# Altium integrated library PCB_Project.IntLib: 28 symbols
Pins are listed as number, name and electrical type; pins without a type are passive.

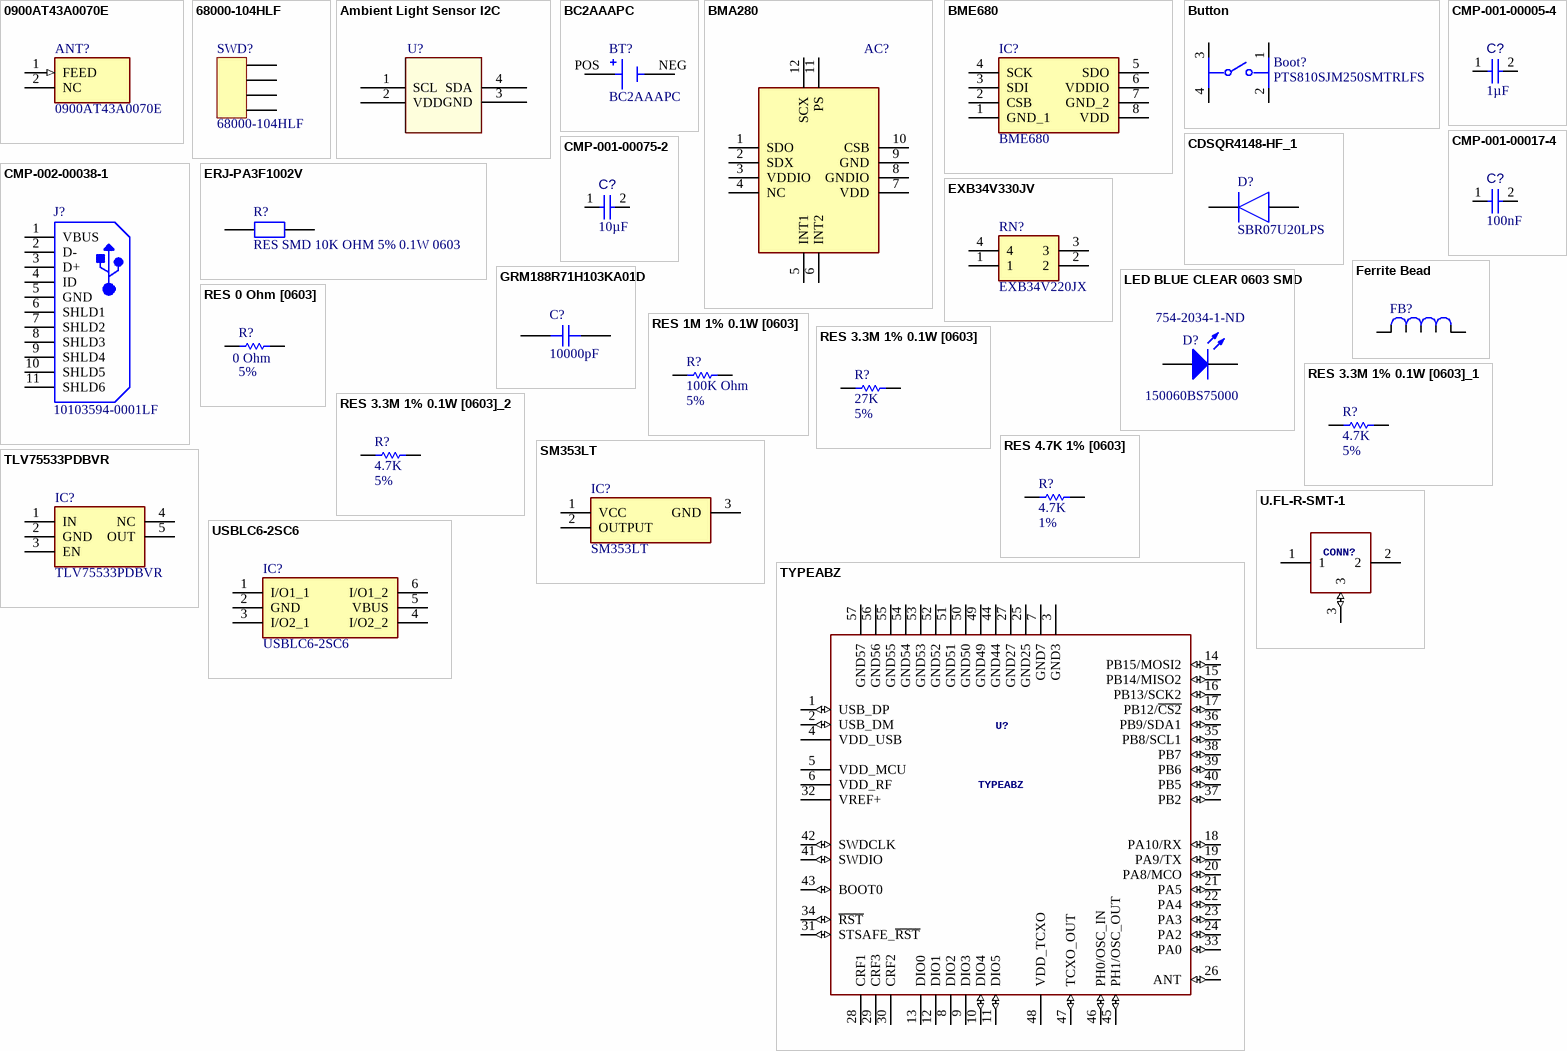
[diagram p0: symbols 0900AT43A0070E to USBLC6-2SC6]

## 0900AT43A0070E
designator ANT?
Antenna; Manufacturer_Name: JOHANSON TECHNOLOGY; Datasheet Link: https://www.johansontechnology.com/datasheets/0900AT43A0070/0900AT43A0070.pdf; Height: 0.9mm; Manufacturer_Part_Number: 0900AT43A0070E
footprint ANTC7020X90N
pins: 1 FEED (in), 2 NC

## 68000-104HLF
designator SWD?
4 Positions Header, Unshrouded Connector 0.100" (2.54mm) Through Hole Gold or Gold, GXT™; Manufacturer 1: Amphenol FCI; Number of Positions: 4; Gender: Male; Connector Type: Male Pin; Voltage Rating: 1.5kV; Current Rating: 3A; Insulation Resistance: 5GR; Mating Post Length: 5.84mm; Mount: Through Hole; Colour: Black; Housing Colour: Black; Housing Material: Thermoplastic; Contact Plating: Nickel,Gold,GXT; Contact Material: Bronze; Min Operating Temperature: -65°C; Max Operating Temperature: 125°C; Number of Rows: 1; Packaging: Bulk; Package Quantity: 100; Termination: Solder; Number of Contacts: 4; Orientation: Straight; Max Voltage Rating (AC): 1.5kV; Contact Gender: Male; Length: 10.16mm; Pitch: 2.54mm; Depth: 2.41mm; Termination Post Length: 2.41mm; Contact Mating Length: 0.23inch; Radiation Hardening: No; REACH SVHC: No SVHC; Flammability Rating: UL94 V-0; ComponentLink1URL: https://datasheet.ciiva.com/16726/68000-16726213.pdf; ComponentLink1Description: https://datasheet.ciiva.com/16726/68000-16726213.pdf; ComponentLink2URL: https://datasheet.ciiva.com/10149/68000-10149830.pdf; ComponentLink2Description: https://datasheet.ciiva.com/10149/68000-10149830.pdf; ComponentLink3URL: https://datasheet.ciiva.com/46395/1914865-46395854.pdf; ComponentLink3Description: https://datasheet.ciiva.com/46395/1914865-46395854.pdf; ComponentLink4URL: https://datasheet.ciiva.com/728/68000-728879.pdf; ComponentLink4Description: https://datasheet.ciiva.com/728/68000-728879.pdf; Description 1: 4 Positions Header, Unshrouded Connector 0.100" (2.54mm) Through Hole Gold or Gold, GXT™; Manufacturer Part Number 1: 68000-104HLF; Pricing 1: 1=0.33, 10=0.316, 100=0.2212, 500=0.18964, 1000=0.15803, 5000=0.13545, 10000=0.12642 (USD); Stock 1: 10785; Supplier 1: Digi-Key; Supplier Part Number 1: 609-3248-ND
footprint 4POS_HEADER (4 Positions Header, Cuttable Connector 0.100")
pins: 1, 2, 3, 4 3

## Ambient Light Sensor I2C
designator U?, comment VEML7700-TR  (value not drawn)
VEML7700-TR, Ambient Light Sensor with I2C; Supplier 1: Digi-Key; Supplier Part Number 1: VEML7700CT-ND; Datasheet: https://media.digikey.com/pdf/Data%20Sheets/Vishay%20Semiconductors/VEML7700.pdf; PN: VEML7700-TR; ComponentLink1Description: VEML7700-TR; ComponentLink1URL: VEML7700-TR
footprint Ambient Light Sensor with I2C
footprint Ambient Light Sensor with I2C
pins: 1 SCL, 2 VDD (power), 3 GND (power), 4 SDA

## BC2AAAPC
designator BT?
BATTERY HOLDER AAA 2 CELL PC PIN; MF: MPD; MP: BC2AAAPC; Package: None; SnapEDA_Link: https://www.snapeda.com/parts/BC2AAAPC/MPD/view-part/4389080/?ref=snap; Availability: Unavailable; Price: None; Value: *
footprint BAT_BC2AAAPC
pins: NEG, POS

## BMA280
designator AC?, comment BMA490L  (value not drawn)
BMA490L Accelerometer; Manufacturer_Name: Bosch Sensortec; Manufacturer_Part_Number: BMA280; Datasheet Link: https://ae-bst.resource.bosch.com/media/_tech/media/datasheets/BST-BMA280-DS000.pdf; Height: 1mm; Arrow Part Number: BMA280; Arrow Price/Stock: https://www.arrow.com/en/products/bma280/bosch; Mouser Part Number: 262-BMA280; Mouser Price/Stock: https://www.mouser.co.uk/ProductDetail/Bosch-Sensortec/BMA280?qs=d72FGnIDsgRcX8VH3KFYOw%3D%3D; ComponentLink1Description: docu; ComponentLink1URL: https://www.bosch-sensortec.com/media/boschsensortec/downloads/datasheets/bst-bma280-ds000.pdf
footprint BMA280
pins: 1 SDO, 2 SDX, 3 VDDIO, 4 NC, 5 INT1, 6 INT2, 7 VDD, 8 GNDIO, 9 GND, 10 CSB, 11 PS, 12 SCX

## BME680
designator IC?
Integrated Circuit; Manufacturer_Name: Bosch Sensortec; Datasheet Link: https://ae-bst.resource.bosch.com/media/_tech/media/datasheets/BST-BME680-DS001-00.pdf; Manufacturer_Part_Number: BME680; Mouser Part Number: 262-BME680; Mouser Price/Stock: https://www.mouser.co.uk/ProductDetail/Bosch-Sensortec/BME680?qs=v271MhAjFHjo0yA%2FC4OnDQ%3D%3D; Arrow Part Number: BME680; Arrow Price/Stock: https://www.arrow.com/en/products/bme680/bosch
footprint BME680
pins: 1 GND_1, 2 CSB, 3 SDI, 4 SCK, 5 SDO, 6 VDDIO, 7 GND_2, 8 VDD

## Button
designator Boot?, comment PTS810SJM250SMTRLFS
SWITCH TACTILE SPST-NO 0.05A 16V; Manufacturer: C&K Components; Throw Configuration: SPST; Contact Resistance: 500mΩ; Electromechanical Life: 150000Cycles; Operating Force: 160gf; Contact Current Rating: 50mA; Temperature: -40°C to +85°C; Device Class L2: Switches; Digikey Description: SWITCH TACTILE SPST-NO 0.05A 16V; Automotive: No; Height: 2.7mm; ComponentLink2Description: Datasheet; Temperature Range Low: -40°C; Device Class L1: Electromechanical; Mouser Description: Switch Tactile N.O. SPST Button J-Bend 0.05A 16VDC 150000Cycles 1.57N SMD T/R; Octopart: https://octopart.com/pts810+sjm+250+smtr+lfs-c%26k+components-29687929; Lead Free: Yes; Voltage Rating Dc: 16V; Temperature Range High: +85°C; Package: PTS810SJM250SMTRLFS; Manufacturer Part Number: PTS810SJM250SMTRLFS; ComponentLink2URL: https://www.ckswitches.com/media/1476/pts810.pdf; Category: Switch; RoHS: TRUE; Device Class L3: Tactile Switches
footprint FP-PTS810SJM250SMTRLFS-MFG
footprint FP-PTS810SJM250SMTRLFS-MFG
pins: 1, 2, 3, 4

## CDSQR4148-HF_1
designator D?, comment SBR07U20LPS
Diode; Manufacturer_Name: Comchip Technology; Manufacturer_Part_Number: CDSQR4148-HF; Datasheet Link: http://www.comchiptech.com/admin/files/product/CDSQR4148-HF-RevC213424.pdf; Height: 0mm; Arrow Part Number: CDSQR4148-HF; Arrow Price/Stock: https://www.arrow.com/en/products/cdsqr4148-hf/comchip-technology; Mouser Part Number: 750-CDSQR4148-HF; Mouser Price/Stock: https://www.mouser.co.uk/ProductDetail/Comchip-Technology/CDSQR4148-HF?qs=2qJf6qQ4IOKNV97fk6Xvow%3D%3D; ComponentLink1Description: SBR07U20LPS; ComponentLink1URL: https://www.diodes.com/assets/Datasheets/SBR07U20LPS.pdf
footprint CDBQR70HF
pins: 1 K, 2 A

## CMP-001-00005-4
designator C?, comment value 1µF  (hidden comment: Capacitor 1 uF +/- 10% 25 V 0603)
Chip Capacitor, 1 uF, +/- 10%, 25 V, 0603 (1608 Metric); Voltage Rating: 25V; Capacitor Type: Ceramic; Min Operating Temperature: -55°C; Tolerance: 10%; Max Operating Temperature: 125°C; Case/Package: 0603; RoHS Compliant: True; Mounting Technology: SM; Pins: 2
footprint CAPC1608X90X40ML10T20 (Chip Capacitor, 2-Leads, Body 1.70x0.90mm, IPC Low Density)
footprint CAPC1608X90X40NL10T20 (Chip Capacitor, 2-Leads, Body 1.70x0.90mm, IPC Medium Density)
footprint CAPC1608X90X40LL10T20 (Chip Capacitor, 2-Leads, Body 1.70x0.90mm, IPC High Density)
pins: 1, 2

## CMP-001-00017-4
designator C?, comment value 100nF  (hidden comment: Capacitor 100 nF +/-10% 50 V 0603)
Chip Capacitor, 100 nF, +/- 10%, 50 V, 0603 (1608 Metric); Capacitor Type: Ceramic; Voltage Rating: 50V; RoHS Compliant: True; Max Operating Temperature: 125°C; Pins: 2; Mounting Technology: SM; Min Operating Temperature: -55°C; Tolerance: 10%; Case/Package: 0603
footprint CAPC1608X90X40ML10T20 (Chip Capacitor, 2-Leads, Body 1.70x0.90mm, IPC Low Density)
footprint CAPC1608X90X40NL10T20 (Chip Capacitor, 2-Leads, Body 1.70x0.90mm, IPC Medium Density)
footprint CAPC1608X90X40LL10T20 (Chip Capacitor, 2-Leads, Body 1.70x0.90mm, IPC High Density)
pins: 1, 2

## CMP-001-00075-2
designator C?, comment value 10µF  (hidden comment: Capacitor 10µF +/-20% 10V 0603)
Chip Capacitor, 10µF +/-20%, 10V, 0603, Thickness 1 mm; Tolerance: 10%; Mounting Technology: SMT; Pins: 2; Min Operating Temperature: -55°C; Case/Package: 0402; Max Operating Temperature: 85°C; Voltage Rating: 10V
footprint CAPC0603(1608)100_L (Chip Capacitor, Body 1.6x0.8mm, Height 1.0mm, IPC High Density)
pins: 1, 2

## CMP-002-00038-1
designator J?, comment 10103594-0001LF
Micro USB 2.0 B Receptacle, 5 Position, Height 3.24 mm, -55 to 85 degC, RoHS, Tape and Reel; Manufacturer: FCI Electronics; Voltage Rating: 100V; Gender: Female; Current Rating: 1.8A; Min Operating Temperature: -55°C; Pins: 5; Contact Plating: Gold; Package Description: 5-Pin Surface Mount Device, Body 8.04 x 5.62 mm; RoHS Compliant: True; Lead Pitch: 0.65mm; Packaging: TapeandReel; Case/Package: FCI-10103594-0001LF; Manufacturer URL: http://portal.fciconnect.com/; Mounting Technology: SM; Datasheet Version: Rev. A, 06/2010; Connector Type: USB; Contact Material: Copper; Datasheet URL: http://portal.fciconnect.com/Comergent//fci/drawing/10103594.pdf; Max Operating Temperature: 85°C; Package Quantity: 1500; Package Reference: FCI-10103594-0001LF
footprint FCI-10103594-0001LF_V (SMD, 5-Leads, Body 8.04x5.62mm, Pitch 0.65 mm)
pins: 1 VBUS, 2 D-, 3 D+, 4 ID, 5 GND, 6 SHLD1, 7 SHLD2, 8 SHLD3, 9 SHLD4, 10 SHLD5, 11 SHLD6

## ERJ-PA3F1002V
designator R?, comment RES SMD 10K OHM 5% 0.1W 0603
Manufacturer: Panasonic Electronic Components; Manufacturer Part Number: ERJ-PA3F1002V; Power (Watts): 0.25W, 1/4W; Temperature Coefficient: ±100ppm/°C; Supplier 1: Digi-Key; RoHS: RoHS Compliant; Category: Resistors; Stock 1: 80783; Pricing 1: 1=0.23, 10=0.205, 25=0.142, 50=0.1102, 100=0.0789, 250=0.06144, 500=0.04884, 1000=0.03467 (CAD); Packaging: Digi-Reel®; Part Status: Active; Resistance (Ohms): 10k; Tolerance: ±5%; Composition: Thick Film; Features: Automotive AEC-Q200, Pulse Withstanding; Operating Temperature: -55°C ~ 155°C; Package / Case: 0603 (1608 Metric); Supplier Device Package: 0603; Size / Dimension: 0.063" L x 0.031" W (1.60mm x 0.80mm); Height - Seated (Max): 0.022" (0.55mm); Failure Rate: -; ComponentLink1URL: https://industrial.panasonic.com/cdbs/www-data/pdf/RDO0000/AOA0000C291.pdf; ComponentLink1Description: https://industrial.panasonic.com/cdbs/www-data/pdf/RDO0000/AOA0000C291.pdf; Supplier Part Number 1: P10KBYDKR-ND
footprint RESC0603 (Chip Resistor 0603, 2-Leads, Body 1.60x0.82mm, IPC High Density)
pins: 1, 2

## EXB34V330JV
designator RN?, comment EXB34V220JX
Resistor Network; Manufacturer_Name: Panasonic; Manufacturer_Part_Number: EXB34V330JV; Datasheet Link: https://industrial.panasonic.com/cdbs/www-data/pdf/AOC0000/AOC0000C14.pdf; Height: 0.5mm; ComponentLink1Description: EXB24/34V; ComponentLink1URL: https://www.mouser.ca/datasheet/2/315/AOC0000C14-1108062.pdf
footprint EXB34V103JV
pins: 1, 2, 3, 4

## Ferrite Bead
designator FB?, comment BLM18AG102SN1D  (value not drawn)
Ferrite Bead 1KOhm @100MHz; Datasheet: https://www.murata.com/en-us/products/productdata/8796738650142/ENFA0003.pdf?src-supplier=Digi-Key; Supplier 1: Mouser; Supplier Part Number 1: 81-BLM11A102S; PN: BLM18AG102SN1D
footprint Ferrite Bead
pins: 1, 2

## GRM188R71H103KA01D
designator C?, comment 10000PF
CAP CER 10000PF 50V X7R 0603; Manufacturer: Murata Electronics North America; Manufacturer Part Number: GRM188R71H103KA01D; Tolerance: ±10%; Supplier 1: Digi-Key; RoHS: RoHS Compliant; Category: Capacitors; Stock 1: 5417714; Pricing 1: 1=0.14, 10=0.031, 100=0.0135, 500=0.00966, 1000=0.00758 (CAD); Packaging: Cut Tape (CT); Part Status: Active; Capacitance: 10000pF; Voltage - Rated: 50V; Temperature Coefficient: X7R; Operating Temperature: -55°C ~ 125°C; Features: -; Ratings: -; Applications: General Purpose; Mounting Type: Surface Mount, MLCC; Package / Case: 0603 (1608 Metric); Size / Dimension: 0.063" L x 0.031" W (1.60mm x 0.80mm); Height - Seated (Max): -; Thickness (Max): 0.035" (0.90mm); Lead Spacing: -; Lead Style: -; ComponentLink1URL: http://www.murata.com/~/media/webrenewal/support/library/catalog/products/capacitor/mlcc/c02e.ashx; ComponentLink1Description: http://www.murata.com/~/media/webrenewal/support/library/catalog/products/capacitor/mlcc/c02e.ashx; Supplier Part Number 1: 490-1512-1-ND
footprint CAPC0603 (Chip Capacitor 0603, 2-Leads, Body 1.60x0.80mm, IPC High Density)
pins: 1, 2

## LED BLUE CLEAR 0603 SMD
designator D?, comment Supplier Part Number 1: 754-2034-1-ND  PN: 150060BS75000  (hidden comment: APHD1608LQBC/D)
LED BLUE CLEAR 0603 SMD; Supplier 1: Digi-Key; Datasheet: https://katalog.we-online.de/led/datasheet/150060BS75000.pdf
footprint LED BLUE CLEAR [0603] (LED BLUE CLEAR 0603 SMD)
pins: 1, 2

## RES 0 Ohm [0603]
designator R?, comment value 0 Ohm  Tolerance: 5%  (hidden comment: RES 0 Ohm 5% 0.1W [0603])
Supplier 1: Mouser; Supplier Part Number 1: 667-ERJ-3GEY0R00V; Datasheet: http://industrial.panasonic.com/cdbs/www-data/pdf/RDA0000/AOA0000C301.pdf?src-supplier=Farnell
footprint RESC0603 (Chip Resistor 0603, 2-Leads, Body 1.60x0.82mm, IPC High Density)
pins: 1, 2

## RES 1M 1% 0.1W [0603]
designator R?, comment value 100K Ohm  Tolerance: 5%  (hidden comment: RES 100K 5% 0.1W [0603])
PN: CR0603-FX-1004ELF; Supplier 1: Mouser; Supplier Part Number 1: 652-CR0603FX-1004ELF; Datasheet: https://uk.rs-online.com/webdocs/0fcd/0900766b80fcdb72.pdf?src-supplier=RSComponents; Power: 0.1W
footprint RES 0603
pins: 1, 2

## RES 3.3M 1% 0.1W [0603]
designator R?, comment value 27K  Tolerance: 5%  (hidden comment: RES 27K 5% 0.1W [0603])
PN: CRCW06033M30FKEA; Supplier 1: Digi-Key; Supplier Part Number 1: 541-3.30MHCT-ND
footprint RES 0603
pins: 1, 2

## RES 3.3M 1% 0.1W [0603]_1
designator R?, comment value 4.7K  Tolerance: 5%  (hidden comment: RES 4.7K 5% 0.1W [0603])
RES 4.7K5% 0.1W [0603]; PN: CRCW06033M30FKEA; Supplier 1: Digi-Key; Supplier Part Number 1: 541-3.30MHCT-ND
footprint RES 0603
pins: 1, 2

## RES 3.3M 1% 0.1W [0603]_2
designator R?, comment value 4.7K  Tolerance: 5%  (hidden comment: RES 4.7K 5% 0.1W [0603])
PN: CRCW06033M30FKEA; Supplier 1: Digi-Key; Supplier Part Number 1: 541-3.30MHCT-ND
footprint RES 0603
pins: 1, 2

## RES 4.7K 1% [0603]
designator R?, comment Resistance: 4.7K  Tolerance: 1%  (hidden comment: RES 4.7K 5% 0.1W [0603])
PN: ERJ-3EKF4701V; Supplier 1: Digi-Key; Supplier Part Number 1: P4.70KHCT-ND
footprint RES 0603
pins: 1, 2

## SM353LT
designator IC?
Integrated Circuit; Manufacturer_Name: Honeywell; Datasheet Link: http://uk.rs-online.com/web/p/products/8252612; Height: 1.45mm; Manufacturer_Part_Number: SM353LT; Arrow Part Number: SM353LT; Arrow Price/Stock: https://www.arrow.com/en/products/sm353lt/honeywell; Mouser Part Number: 785-SM353LT; Mouser Price/Stock: https://www.mouser.co.uk/ProductDetail/Honeywell/SM353LT?qs=sJdZgDoFdSW3aINL1oUyuA%3D%3D; ComponentLink1Description: documentation; ComponentLink1URL: http://www.farnell.com/datasheets/2012450.pdf?_ga=2.245790722.741299232.1603476058-140605836.1598371586&_gac=1.141304070.1603476058.EAIaIQobChMItI734qXL7AIVmRatBh3JPwF_EAAYAiAAEgIk7PD_BwE
footprint SOT95P280X145-3N
pins: 1 VCC, 2 OUTPUT, 3 GND

## TLV75533PDBVR
designator IC?
Integrated Circuit; Manufacturer_Name: Texas Instruments; Datasheet Link: http://www.ti.com/lit/gpn/tlv755p; Height: 1.45mm; Manufacturer_Part_Number: TLV75533PDBVR; Mouser Part Number: 595-TLV75533PDBVR; Mouser Price/Stock: https://www.mouser.co.uk/ProductDetail/Texas-Instruments/TLV75533PDBVR?qs=55YtniHzbhAKEwqeO2xJXQ%3D%3D; Arrow Part Number: TLV75533PDBVR; Arrow Price/Stock: https://www.arrow.com/en/products/tlv75533pdbvr/texas-instruments
footprint SOT95P280X145-5N
pins: 1 IN, 2 GND, 3 EN, 4 NC, 5 OUT

## TYPEABZ
designator U?
CMWX1ZZABZ-078; GateName_1: G$1; SymbolName_1: TYPEABZ; DeviceSetName: TYPEABZ
footprint CMWX1ZZABZ (muRata LoRa module)
pins: 1 USB_DP (io), 2 USB_DM (io), 3 GND3 (power), 4 VDD_USB (power), 5 VDD_MCU (power), 6 VDD_RF (power), 7 GND7 (power), 8 DIO2, 9 DIO3, 10 DIO4 (io), 11 DIO5 (io), 12 DIO1, 13 DIO0, 14 PB15/MOSI2 (io), 15 PB14/MISO2 (io), 16 PB13/SCK2 (io), 17 PB12/~{CS2} (io), 18 PA10/RX (io), 19 PA9/TX (io), 20 PA8/MCO (io), 21 PA5 (io), 22 PA4 (io), 23 PA3 (io), 24 PA2 (io), 25 GND25 (power), 26 ANT (io), 27 GND27 (power), 28 CRF1, 29 CRF3, 30 CRF2, 31 STSAFE_~{RST} (io), 32 VREF+ (power), 33 PA0 (io), 34 ~{RST} (io), 35 PB8/SCL1 (io), 36 PB9/SDA1 (io), 37 PB2 (io), 38 PB7 (io), 39 PB6 (io), 40 PB5 (io), 41 SWDIO (io), 42 SWDCLK (io), 43 BOOT0 (io), 44 GND44 (power), 45 PH1/OSC_OUT (io), 46 PH0/OSC_IN (io), 47 TCXO_OUT (io), 48 VDD_TCXO (power), 49 GND49 (power), 50 GND50 (power), 51 GND51 (power), 52 GND52 (power), 53 GND53 (power), 54 GND54 (power), 55 GND55 (power), 56 GND56 (power), 57 GND57 (power)

## U.FL-R-SMT-1
designator CONN?  (value not drawn)
GateName_1: G$1; SymbolName_1: U.FL-R-SMT-1; LibraryName: Kris; DeviceSetName: U.FL-R-SMT-1
footprint U.FL-R-SMT-1
pins: 1 (power), 2 (power), 3 (io)

## USBLC6-2SC6
designator IC?
Integrated Circuit; Manufacturer_Name: STMicroelectronics; Datasheet Link: http://www.st.com/st-web-ui/static/active/en/resource/technical/document/datasheet/CD00050750.pdf; Height: 1.45mm; Manufacturer_Part_Number: USBLC6-2SC6; Mouser Part Number: 511-USBLC6-2SC6; Mouser Price/Stock: https://www.mouser.co.uk/ProductDetail/STMicroelectronics/USBLC6-2SC6/?qs=po45yt2pPpu%2FhNIlwQdTlg%3D%3D; Arrow Part Number: USBLC6-2SC6; Arrow Price/Stock: https://www.arrow.com/en/products/usblc6-2sc6/stmicroelectronics
footprint SOT95P280X145-6N
pins: 1 I/O1_1, 2 GND, 3 I/O2_1, 4 I/O2_2, 5 VBUS, 6 I/O1_2